# EAGLE library part PHIDGETS_ENCODER (library ecar)
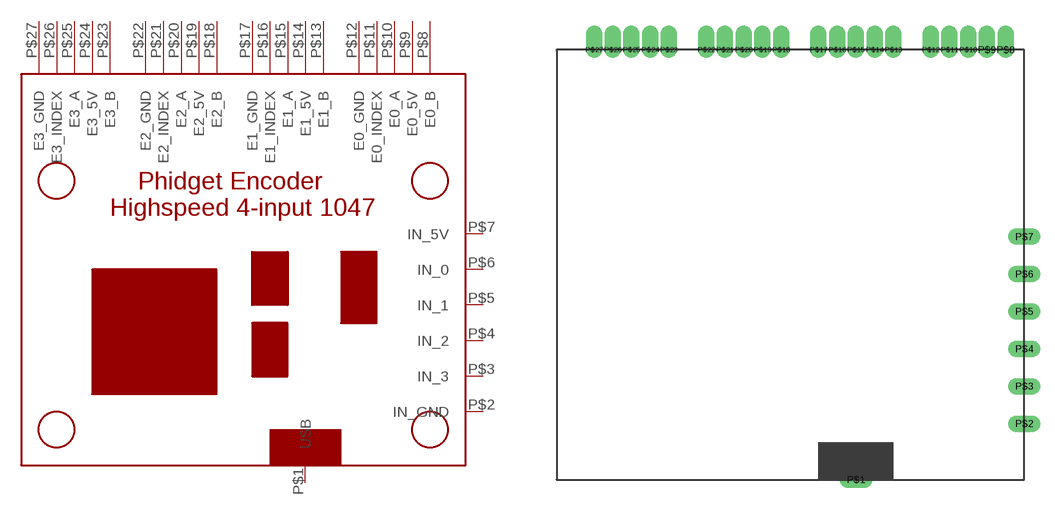
[diagram p8: symbol with the pads of PHIDGETS; footprint PHIDGETS]

Designator prefix -

## PHIDGETS_ENCODER  [PHIDGETS]
P$1  USB
P$2  IN_GND
P$3  IN_3
P$4  IN_2
P$5  IN_1
P$6  IN_0
P$7  IN_5V
P$8  E0_B
P$9  E0_5V
P$10  E0_A
P$11  E0_INDEX
P$12  E0_GND
P$13  E1_B
P$14  E1_5V
P$15  E1_A
P$16  E1_INDEX
P$17  E1_GND
P$18  E2_B
P$19  E2_5V
P$20  E2_A
P$21  E2_INDEX
P$22  E2_GND
P$23  E3_B
P$24  E3_5V
P$25  E3_A
P$26  E3_INDEX
P$27  E3_GND

## Footprint PHIDGETS (pad centres in mm)
drill 0.6 long: P$1 20.32,0; P$2 31.75,3.81; P$3 31.75,6.35; P$4 31.75,8.89; P$5 31.75,11.43; P$6 31.75,13.97; P$7 31.75,16.51
drill 0.6 offset: P$8 30.48,29.21; P$9 29.21,29.21; P$10 27.94,29.21; P$11 26.67,29.21; P$12 25.4,29.21; P$13 22.86,29.21; P$14 21.59,29.21; P$15 20.32,29.21; P$16 19.05,29.21; P$17 17.78,29.21; P$18 15.24,29.21; P$19 13.97,29.21; P$20 12.7,29.21; P$21 11.43,29.21; P$22 10.16,29.21; P$23 7.62,29.21; P$24 6.35,29.21; P$25 5.08,29.21; P$26 3.81,29.21; P$27 2.54,29.21